# EAGLE library part 1296-T86 (library con-leotronics)
1.27mm SINGLE ROW FEMALE SOCKET Source: http://www.leotronics.co.uk/Conexcon/Data%20Sheets/sec.%20A/1296ing.pdf
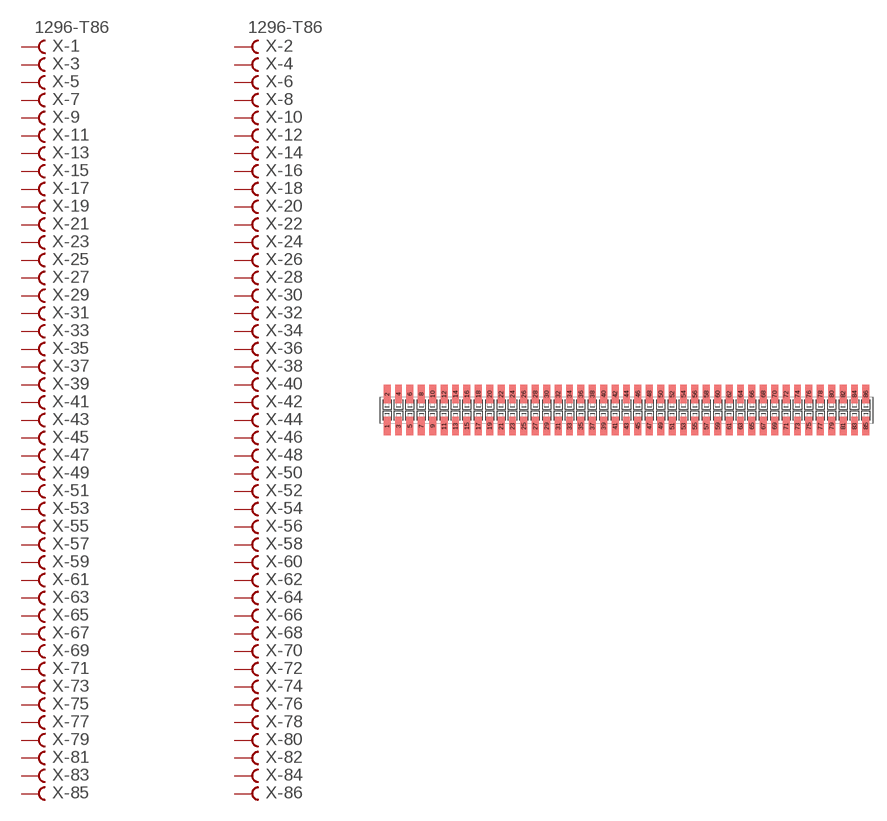
[diagram p40: symbol with the pads of 1296-86; footprint 1296-86]

Designator prefix X; gates -1=FVAL -2=FVAL -3=F -4=F -5=F -6=F -7=F -8=F -9=F -10=F -11=F -12=F -13=F -14=F -15=F -16=F -17=F -18=F -19=F -20=F -21=F -22=F -23=F -24=F -25=F -26=F -27=F -28=F -29=F -30=F -31=F -32=F -33=F -34=F -35=F -36=F -37=F -38=F -39=F -40=F -41=F -42=F -43=F -44=F -45=F -46=F -47=F -48=F -49=F -50=F -51=F -52=F -53=F -54=F -55=F -56=F -57=F -58=F -59=F -60=F -61=F -62=F -63=F -64=F -65=F -66=F -67=F -68=F -69=F -70=F -71=F -72=F -73=F -74=F -75=F -76=F -77=F -78=F -79=F -80=F -81=F -82=F -83=F -84=F -85=F -86=F

## 1296-T86 (OC_FARNELL: unknown; OC_NEWARK: unknown)  [1296-86]
1  -1:B  pas
2  -2:B  pas
3  -3:B  pas
4  -4:B  pas
5  -5:B  pas
6  -6:B  pas
7  -7:B  pas
8  -8:B  pas
9  -9:B  pas
10  -10:B  pas
11  -11:B  pas
12  -12:B  pas
13  -13:B  pas
14  -14:B  pas
15  -15:B  pas
16  -16:B  pas
17  -17:B  pas
18  -18:B  pas
19  -19:B  pas
20  -20:B  pas
21  -21:B  pas
22  -22:B  pas
23  -23:B  pas
24  -24:B  pas
25  -25:B  pas
26  -26:B  pas
27  -27:B  pas
28  -28:B  pas
29  -29:B  pas
30  -30:B  pas
31  -31:B  pas
32  -32:B  pas
33  -33:B  pas
34  -34:B  pas
35  -35:B  pas
36  -36:B  pas
37  -37:B  pas
38  -38:B  pas
39  -39:B  pas
40  -40:B  pas
41  -41:B  pas
42  -42:B  pas
43  -43:B  pas
44  -44:B  pas
45  -45:B  pas
46  -46:B  pas
47  -47:B  pas
48  -48:B  pas
49  -49:B  pas
50  -50:B  pas
51  -51:B  pas
52  -52:B  pas
53  -53:B  pas
54  -54:B  pas
55  -55:B  pas
56  -56:B  pas
57  -57:B  pas
58  -58:B  pas
59  -59:B  pas
60  -60:B  pas
61  -61:B  pas
62  -62:B  pas
63  -63:B  pas
64  -64:B  pas
65  -65:B  pas
66  -66:B  pas
67  -67:B  pas
68  -68:B  pas
69  -69:B  pas
70  -70:B  pas
71  -71:B  pas
72  -72:B  pas
73  -73:B  pas
74  -74:B  pas
75  -75:B  pas
76  -76:B  pas
77  -77:B  pas
78  -78:B  pas
79  -79:B  pas
80  -80:B  pas
81  -81:B  pas
82  -82:B  pas
83  -83:B  pas
84  -84:B  pas
85  -85:B  pas
86  -86:B  pas

## Footprint 1296-86 (pad centres in mm)
1.27mm SINGLE ROW FEMALE SOCKET Source: http://www.leotronics.co.uk/Conexcon/Data%20Sheets/sec.%20A/1296ing.pdf
smd 0.76 x 2.05: 1 -26.67,-1.78; 2 -26.67,1.78; 3 -25.4,-1.78; 4 -25.4,1.78; 5 -24.13,-1.78; 6 -24.13,1.78; 7 -22.86,-1.78; 8 -22.86,1.78; 9 -21.59,-1.78; 10 -21.59,1.78; 11 -20.32,-1.78; 12 -20.32,1.78; 13 -19.05,-1.78; 14 -19.05,1.78; 15 -17.78,-1.78; 16 -17.78,1.78; 17 -16.51,-1.78; 18 -16.51,1.78; 19 -15.24,-1.78; 20 -15.24,1.78; 21 -13.97,-1.78; 22 -13.97,1.78; 23 -12.7,-1.78; 24 -12.7,1.78; 25 -11.43,-1.78; 26 -11.43,1.78; 27 -10.16,-1.78; 28 -10.16,1.78; 29 -8.89,-1.78; 30 -8.89,1.78; 31 -7.62,-1.78; 32 -7.62,1.78; 33 -6.35,-1.78; 34 -6.35,1.78; 35 -5.08,-1.78; 36 -5.08,1.78; 37 -3.81,-1.78; 38 -3.81,1.78; 39 -2.54,-1.78; 40 -2.54,1.78; 41 -1.27,-1.78; 42 -1.27,1.78; 43 0,-1.78; 44 0,1.78; 45 1.27,-1.78; 46 1.27,1.78; 47 2.54,-1.78; 48 2.54,1.78; 49 3.81,-1.78; 50 3.81,1.78; 51 5.08,-1.78; 52 5.08,1.78; 53 6.35,-1.78; 54 6.35,1.78; 55 7.62,-1.78; 56 7.62,1.78; 57 8.89,-1.78; 58 8.89,1.78; 59 10.16,-1.78; 60 10.16,1.78; 61 11.43,-1.78; 62 11.43,1.78; 63 12.7,-1.78; 64 12.7,1.78; 65 13.97,-1.78; 66 13.97,1.78; 67 15.24,-1.78; 68 15.24,1.78; 69 16.51,-1.78; 70 16.51,1.78; 71 17.78,-1.78; 72 17.78,1.78; 73 19.05,-1.78; 74 19.05,1.78; 75 20.32,-1.78; 76 20.32,1.78; 77 21.59,-1.78; 78 21.59,1.78; 79 22.86,-1.78; 80 22.86,1.78; 81 24.13,-1.78; 82 24.13,1.78; 83 25.4,-1.78; 84 25.4,1.78; 85 26.67,-1.78; 86 26.67,1.78